# Altium footprint library CartSimple.PCBLIB: 166 footprints (part 10 of 11)
Each footprint in its own frame and in the unit in brackets; x right, y up, seen from the top. Pads: shape width x height; smd on the part's side, far side on the other; paste and mask are expansions set on the pad; w line width, h text height; cw(c..) or ccw(c..) is an arc to the next point about the centre after c.
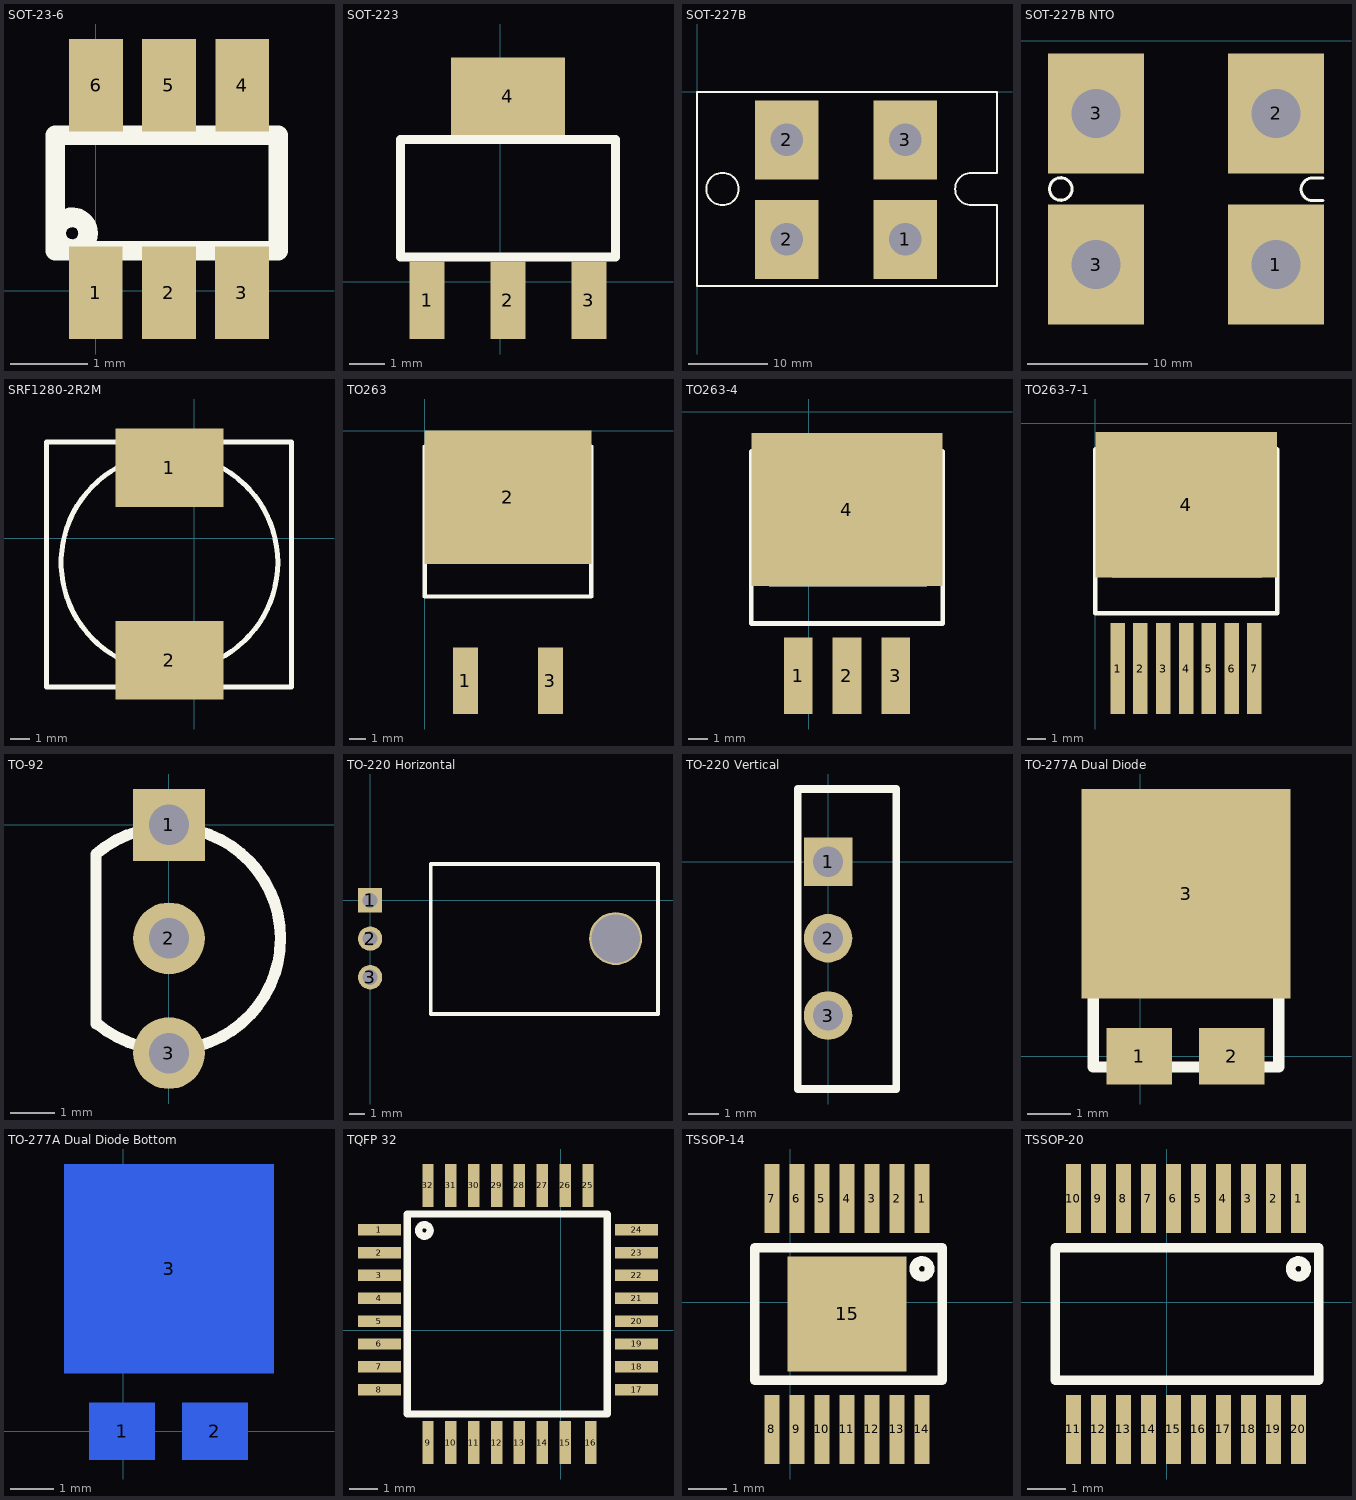
[diagram p9: the footprints below, top view; thin cyan lines are the x and y axes]

## SOT-23-6 [mm]
pads (6):
  rect 0.7x1.2 smd: 1(0,-0.025) 2(0.95,-0.025) 3(1.9,-0.025) 4(1.904,2.675) 5(0.95,2.675) 6(0.004,2.675)
Top Overlay:
  circle w0.254: c-0.306,0.75 r0.206
  lines w0.254: -0.525,0.525 2.375,0.525 2.375,2.025 -0.525,2.025 -0.525,0.525

## SOT-223 [mm]
pads (4):
  rect 1x2.2 smd: 1(-2.075,-0.525) 2(0.225,-0.525) 3(2.525,-0.525)
  rect 3.25x2.2 smd: 4(0.225,5.275)
Top Overlay:
  lines w0.254: -2.825,0.7 -2.825,4.05 3.275,4.05 3.275,0.7 -2.825,0.7

## SOT-227B [mm]
pads (4):
  rect 8x10 hole 4.1: 1(26.373,-18.675) 2(11.373,-18.675) 2(11.373,-6.075) 3(26.373,-6.075)
Top Overlay:
  circle w0.254: c3.225,-12.3 r2.05
  lines w0.254: 0,-24.6 38,-24.6 38,-14.35 34.75,-14.35 cw(c34.75,-12.3) 34.75,-10.25 38,-10.25 38,0 0,0 0,-24.6

## SOT-227B NTO [mm]
pads (4):
  rect 8x10 hole 4.1: 1(26.373,-18.675) 2(26.373,-6.075) 3(11.373,-18.675) 3(11.373,-6.075)
Top Overlay:
  circle w0.254: c8.436,-12.375 r0.939
  lines w0.254: 29.411,-13.339 cw(c29.411,-12.4) 29.411,-11.461 ; 29.425,-13.35 30.275,-13.35 ; 29.425,-11.45 30.275,-11.45

## SRF1280-2R2M [mm]
pads (2):
  rect 5.5x4 smd: 1(-1.25,3.575) 2(-1.25,-6.225)
Top Overlay:
  circle w0.254: c-1.25,-1.25 r5.525
  lines w0.254: -7.525,-7.6 -7.525,4.9 4.975,4.9 4.975,-7.6 -7.525,-7.6

## TO263 [mm]
pads (3):
  rect 1.5x4 smd: 1(2.45,-15) 3(7.55,-15)
  rect 10x8 smd: 2(5,-4)
Top Overlay:
  lines w0.254: 0,-2.6 0.975,-2.6 0.975,-7.875 9.125,-7.875 9.125,-2.6 10,-2.6 ; 0,-9.95 10,-9.95 10,-0.95 0,-0.95 0,-9.95

## TO263-4 [mm]
pads (4):
  rect 1.5x4 smd: 1(-0.55,-13.8) 2(2,-13.8) 3(4.55,-13.8)
  rect 10x8 smd: 4(2,-5.125)
Top Overlay:
  lines w0.254: -3,-3.725 -2.025,-3.725 -2.025,-9 6.125,-9 6.125,-3.725 7,-3.725 ; -3,-11.075 -3,-2.075 7,-2.075 7,-11.075 -3,-11.075

## TO263-7-1 [mm]
pads (8):
  rect 0.8x5 smd: 1(1.225,-13.5) 2(2.475,-13.5) 3(3.725,-13.5) 4(5,-13.5) 5(6.25,-13.5) 6(7.5,-13.5) 7(8.75,-13.5)
  rect 10x8 smd: 4(5,-4.5)
Top Overlay:
  lines w0.254: 0,-3.1 0.975,-3.1 0.975,-8.375 9.125,-8.375 9.125,-3.1 10,-3.1 ; 0,-10.45 0,-1.45 10,-1.45 10,-10.45 0,-10.45

## TO-92 [mm] "Signal Transistor"
pads (3):
  rect 1.6x1.6 hole 0.9: 1(0,0)
  round 1.6 hole 0.9: 2(0,-2.525) 3(0,-5.075)
Top Overlay:
  lines w0.254: -1.625,-4.425 -1.625,-0.65 cw(c0,-2.525) -1.613,-4.411

## TO-220 Horizontal [mm]
pads (4):
  rect 1.6x1.6 hole 1: 1(0,0)
  round 1.6 hole 1: 2(0,-2.525) 3(0,-5.075)
  round 3.5 hole 3.2: ""(16.2,-2.525)
Top Overlay:
  lines w0.254: 4,-7.5 19,-7.5 19,2.4 4,2.4 4,-7.5

## TO-220 Vertical [mm]
pads (3):
  rect 1.6x1.6 hole 1: 1(0,0)
  round 1.6 hole 1: 2(0,-2.525) 3(0,-5.075)
Top Overlay:
  lines w0.254: -1,-7.5 -1,2.4 2.25,2.4 2.25,-7.5 -1,-7.5

## TO-277A Dual Diode [mm]
pads (3):
  rect 1.5x1.3 smd: 1(-0.025,0) 2(2.1,0)
  rect 4.8x4.8 smd: 3(1.05,3.725)
Top Overlay:
  lines w0.254: -1.075,-0.25 3.175,-0.25 3.175,5.75 -1.075,5.75 -1.075,-0.25

## TO-277A Dual Diode Bottom [mm]
pads (3):
  rect 1.5x1.3 smd far side: 1(-0.025,0) 2(2.1,0)
  rect 4.8x4.8 smd far side: 3(1.05,3.725)
Bottom Overlay:
  lines w0.254: -1.075,-0.25 3.175,-0.25 3.175,5.75 -1.075,5.75 -1.075,-0.25

## TQFP 32 [mm]
pads (32):
  rect 1.5x0.4 smd: 1(-6.35,3.525) 2(-6.35,2.725) 3(-6.35,1.925) 4(-6.35,1.125) 5(-6.35,0.325) 6(-6.35,-0.475) 7(-6.35,-1.275) 8(-6.35,-2.075) 17(2.65,-2.075) 18(2.65,-1.275) 19(2.65,-0.475) 20(2.65,0.325) 21(2.65,1.125) 22(2.65,1.925) 23(2.65,2.725) 24(2.65,3.525)
  rect 0.4x1.5 smd: 9(-4.65,-3.925) 10(-3.85,-3.925) 11(-3.05,-3.925) 12(-2.25,-3.925) 13(-1.45,-3.925) 14(-0.65,-3.925) 15(0.15,-3.925) 16(1.05,-3.925) 25(0.95,5.075) 26(0.15,5.075) 27(-0.65,5.075) 28(-1.45,5.075) 29(-2.25,5.075) 30(-3.05,5.075) 31(-3.85,5.075) 32(-4.65,5.075)
Top Overlay:
  circle w0.254: c-4.777,3.5 r0.202
  lines w0.254: -5.375,-2.925 1.625,-2.925 1.625,4.075 -5.375,4.075 -5.375,-2.925

## TSSOP-14 [mm]
pads (15):
  rect 0.4x1.8 smd: 1(3.425,2.7) 2(2.775,2.7) 3(2.125,2.7) 4(1.475,2.7) 5(0.825,2.7) 6(0.175,2.7) 7(-0.475,2.7) 8(-0.475,-3.3) 9(0.175,-3.3) 10(0.825,-3.3) 11(1.475,-3.3) 12(2.125,-3.3) 13(2.775,-3.3) 14(3.425,-3.3)
  rect 3.1x3 smd: 15(1.475,-0.3)
Top Overlay:
  circle w0.254: c3.423,0.875 r0.202
  lines w0.254: -0.925,-2.025 -0.925,1.425 3.95,1.425 3.95,-2.025 -0.925,-2.025

## TSSOP-20 [mm]
pads (20):
  rect 0.4x1.8 smd: 1(3.425,2.7) 2(2.775,2.7) 3(2.125,2.7) 4(1.475,2.7) 5(0.825,2.7) 6(0.175,2.7) 7(-0.475,2.7) 8(-1.125,2.7) 9(-1.775,2.7) 10(-2.425,2.7) 11(-2.425,-3.3) 12(-1.775,-3.3) 13(-1.125,-3.3) 14(-0.475,-3.3) 15(0.175,-3.3) 16(0.825,-3.3) 17(1.475,-3.3) 18(2.125,-3.3) 19(2.775,-3.3) 20(3.425,-3.3)
Top Overlay:
  circle w0.254: c3.423,0.875 r0.202
  lines w0.254: -2.9,-2.025 3.95,-2.025 3.95,1.425 -2.9,1.425 -2.9,-2.025